# Altium footprint library FP-936-03-MFG.PcbLib: 1 footprints
Each footprint in its own frame and in the unit in brackets; x right, y up, seen from the top. Pads: shape width x height; smd on the part's side, far side on the other; paste and mask are expansions set on the pad; w line width, h text height; cw(c..) or ccw(c..) is an arc to the next point about the centre after c.
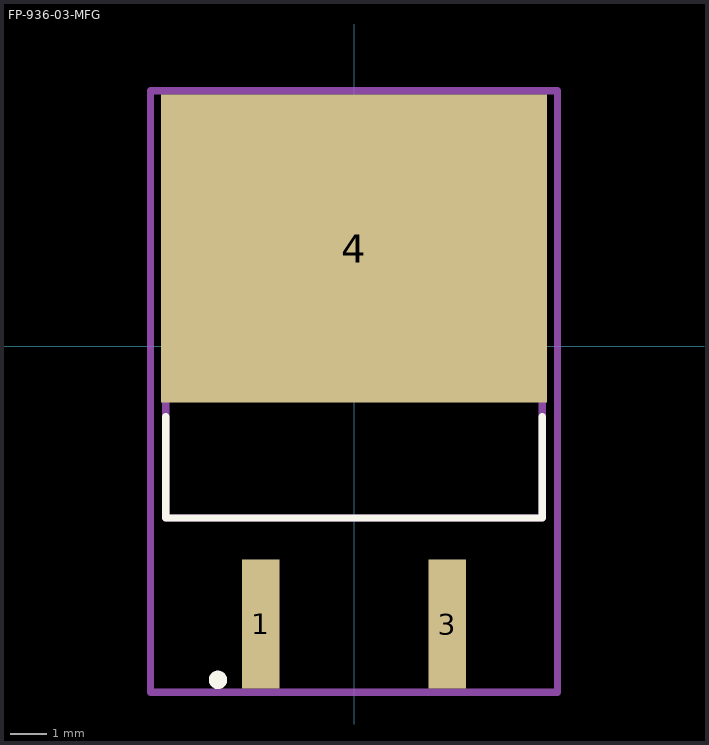
[diagram p0: the footprint, top view; thin cyan lines are the x and y axes]

## FP-936-03-MFG [mil]
pads (3):
  rect 40x137.95 smd paste+0 mask+0: 1(-100,-297.55) 3(100,-297.55)
  rect 412.99x329.92 smd paste+0 mask+0: 4(0,104.54)
Top Overlay:
  circle w9.84: c-145.67,-357.28 r4.92
  lines w7.87: -201.5,-75.19 -201.5,-184 201.5,-184 201.5,-75.19
Top Assembly:
  lines w7.87: -217.93,-370.46 217.93,-370.46 217.93,273.44 -217.93,273.44 -217.93,-370.46
  text ".Designator" at 0,-48.53 h39.37
Top 3D Body:
  lines w7.87: -201.5,-184 201.5,-184 201.5,184 -201.5,184 -201.5,-184
Top Courtyard:
  lines w7.87: -217.93,-370.46 217.93,-370.46 217.93,273.44 -217.93,273.44 -217.93,-370.46
Top Component Center:
  lines w3.94: -19.68,0 19.68,0 ; 0,-19.68 0,19.68
3D body "IC_ON_Semiconductor_LM317BD2TR4G_eec.STEP": height 10, standoff 0, extent -217.93,-370.46 217.93,273.44